# Altium footprint library ECAP.PcbLib: 1 footprints
Each footprint in its own frame and in the unit in brackets; x right, y up, seen from the top. Pads: shape width x height; smd on the part's side, far side on the other; paste and mask are expansions set on the pad; w line width, h text height; cw(c..) or ccw(c..) is an arc to the next point about the centre after c.
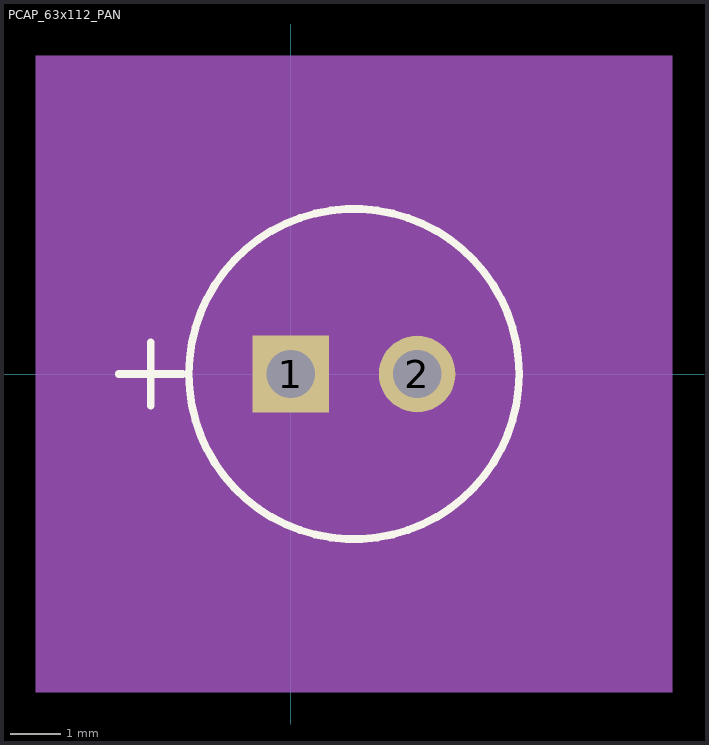
[diagram p0: the footprint, top view; thin cyan lines are the x and y axes]

## PCAP_63x112_PAN [mil]
pads (2):
  rect 60x60 hole 38 mask+0: 1(0,0)
  round 60 hole 38 mask+0: 2(99,0)
Top Overlay:
  circle w6: c49.5,0 r129.5
  lines w6: -135,0 -85,0 ; -110,-25 -110,25
Mechanical 5:
  region: 299,-249.5 -200,-249.5 -200,249.5 299,249.5
Mechanical 13:
  circle w0: c49.5,0 r124.5
  lines w1: -135,0 -85,0 ; -110,-25 -110,25
Mechanical 15:
  region: -85,55.38 -5.88,134.5 104.88,134.5 184,55.38 184,-55.38 104.88,-134.5 -5.88,-134.5 -85,-55.38
  lines w6: -85,-55.38 -5.88,-134.5 104.88,-134.5 184,-55.38 184,55.38 104.88,134.5 -5.88,134.5 -85,55.38 -85,-55.38
3D body: height 10, standoff 0, extent 0,0 10,10
3D body "PCAP_63x112_PAN.step": height 441.61, standoff -184.02, extent -75.35,-124.37 173.99,124.37